# Altium schematic symbol library SCH - MCU - SI LABS - SI LABS EZR32WG330F128R67 64-PIN QFN 9X9.SchLib: 1 symbol
Pins are listed as number, name and electrical type; pins without a type are passive.

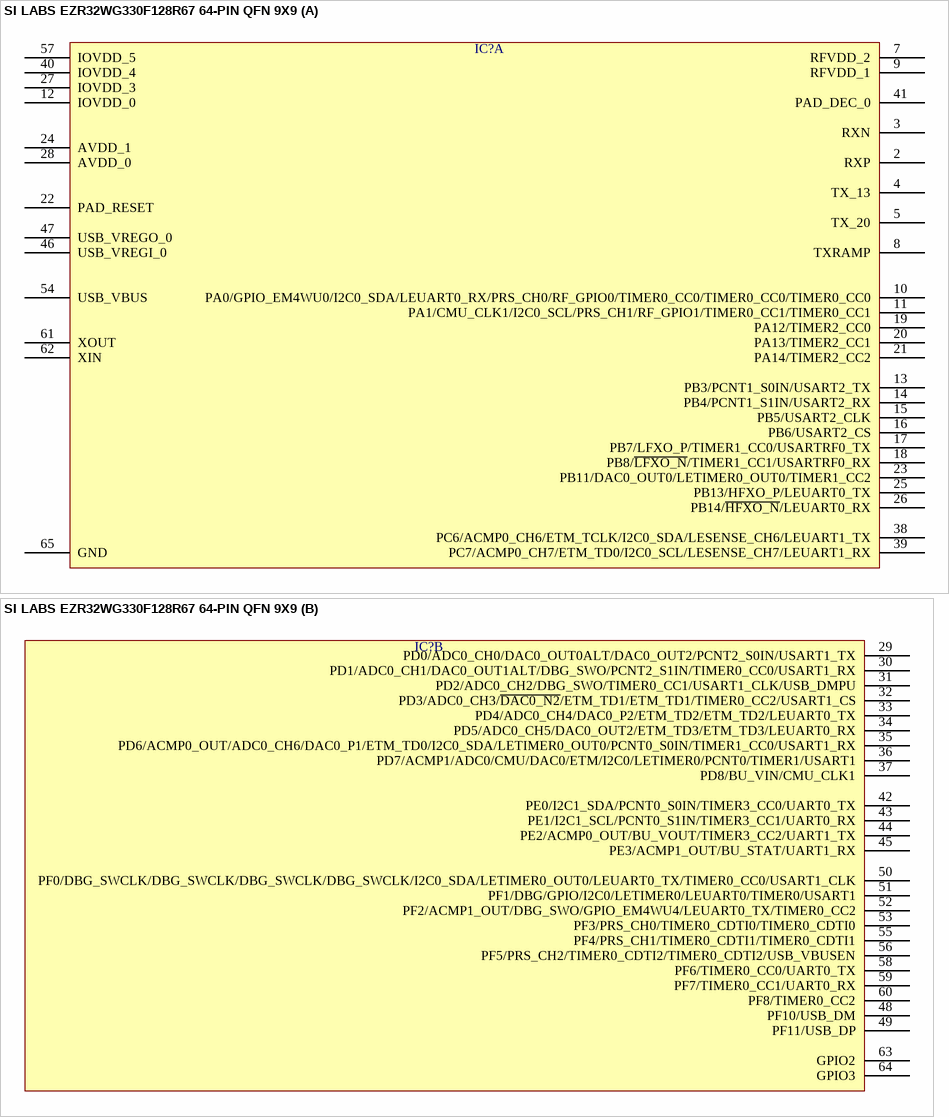
[diagram p0: symbol SI LABS EZR32WG330F128R67 64-PIN QFN 9X9]

## SI LABS EZR32WG330F128R67 64-PIN QFN 9X9
designator IC?  (value not drawn)
part A pins: 2 RXP, 3 RXN, 4 TX_13, 5 TX_20, 7 RFVDD_2, 8 TXRAMP, 9 RFVDD_1, 10 PA0/GPIO_EM4WU0/I2C0_SDA/LEUART0_RX/PRS_CH0/RF_GPIO0/TIMER0_CC0/TIMER0_CC0/TIMER0_CC0, 11 PA1/CMU_CLK1/I2C0_SCL/PRS_CH1/RF_GPIO1/TIMER0_CC1/TIMER0_CC1, 12 IOVDD_0, 13 PB3/PCNT1_S0IN/USART2_TX, 14 PB4/PCNT1_S1IN/USART2_RX, 15 PB5/USART2_CLK, 16 PB6/USART2_CS, 17 PB7/LFXO_P/TIMER1_CC0/USARTRF0_TX, 18 PB8/~{LFXO_N}/TIMER1_CC1/USARTRF0_RX, 19 PA12/TIMER2_CC0, 20 PA13/TIMER2_CC1, 21 PA14/TIMER2_CC2, 22 PAD_RESET, 23 PB11/DAC0_OUT0/LETIMER0_OUT0/TIMER1_CC2, 24 AVDD_1, 25 PB13/HFXO_P/LEUART0_TX, 26 PB14/~{HFXO_N}/LEUART0_RX, 27 IOVDD_3, 28 AVDD_0, 38 PC6/ACMP0_CH6/ETM_TCLK/I2C0_SDA/LESENSE_CH6/LEUART1_TX, 39 PC7/ACMP0_CH7/ETM_TD0/I2C0_SCL/LESENSE_CH7/LEUART1_RX, 40 IOVDD_4, 41 PAD_DEC_0, 46 USB_VREGI_0, 47 USB_VREGO_0, 54 USB_VBUS, 57 IOVDD_5, 61 XOUT, 62 XIN, 65 GND
part B pins: 29 PD0/ADC0_CH0/DAC0_OUT0ALT/DAC0_OUT2/PCNT2_S0IN/USART1_TX, 30 PD1/ADC0_CH1/DAC0_OUT1ALT/DBG_SWO/PCNT2_S1IN/TIMER0_CC0/USART1_RX, 31 PD2/ADC0_CH2/DBG_SWO/TIMER0_CC1/USART1_CLK/USB_DMPU, 32 PD3/ADC0_CH3/~{DAC0_N2}/ETM_TD1/ETM_TD1/TIMER0_CC2/USART1_CS, 33 PD4/ADC0_CH4/DAC0_P2/ETM_TD2/ETM_TD2/LEUART0_TX, 34 PD5/ADC0_CH5/DAC0_OUT2/ETM_TD3/ETM_TD3/LEUART0_RX, 35 PD6/ACMP0_OUT/ADC0_CH6/DAC0_P1/ETM_TD0/I2C0_SDA/LETIMER0_OUT0/PCNT0_S0IN/TIMER1_CC0/USART1_RX, 36 PD7/ACMP1/ADC0/CMU/DAC0/ETM/I2C0/LETIMER0/PCNT0/TIMER1/USART1, 37 PD8/BU_VIN/CMU_CLK1, 42 PE0/I2C1_SDA/PCNT0_S0IN/TIMER3_CC0/UART0_TX, 43 PE1/I2C1_SCL/PCNT0_S1IN/TIMER3_CC1/UART0_RX, 44 PE2/ACMP0_OUT/BU_VOUT/TIMER3_CC2/UART1_TX, 45 PE3/ACMP1_OUT/BU_STAT/UART1_RX, 48 PF10/USB_DM, 49 PF11/USB_DP, 50 PF0/DBG_SWCLK/DBG_SWCLK/DBG_SWCLK/DBG_SWCLK/I2C0_SDA/LETIMER0_OUT0/LEUART0_TX/TIMER0_CC0/USART1_CLK, 51 PF1/DBG/GPIO/I2C0/LETIMER0/LEUART0/TIMER0/USART1, 52 PF2/ACMP1_OUT/DBG_SWO/GPIO_EM4WU4/LEUART0_TX/TIMER0_CC2, 53 PF3/PRS_CH0/TIMER0_CDTI0/TIMER0_CDTI0, 55 PF4/PRS_CH1/TIMER0_CDTI1/TIMER0_CDTI1, 56 PF5/PRS_CH2/TIMER0_CDTI2/TIMER0_CDTI2/USB_VBUSEN, 58 PF6/TIMER0_CC0/UART0_TX, 59 PF7/TIMER0_CC1/UART0_RX, 60 PF8/TIMER0_CC2, 63 GPIO2, 64 GPIO3